# EAGLE library part HEADER-8POS- (library quadparts_prebuilt_2022)
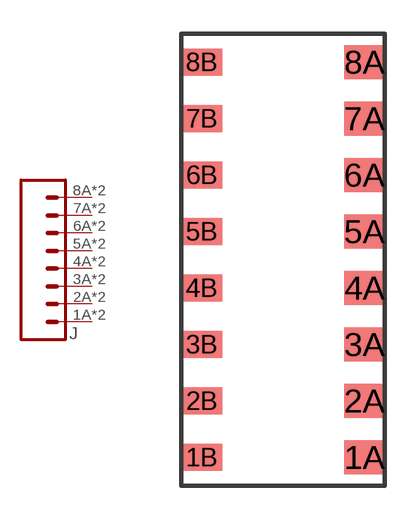
[diagram p4: symbol with the pads of WIRE-TERMINAL-1X8-2.5MM-SMD; footprint WIRE-TERMINAL-1X8-2.5MM-SMD]

Designator prefix J

## HEADER-8POS- (CREATOR: Swanson; DIST: DIGIKEY; DISTPN: 478-6173-1-ND; MOUNTING: SMD; PIN1: 1; PIN2: 2; PIN3: 3; PIN4: 4; PIN5: 5; PIN6: 6; PIN7: 7; PIN8: 8)  [WIRE-TERMINAL-1X8-2.5MM-SMD]
1A  1  pas
1B  1  pas
2A  2  pas
2B  2  pas
3A  3  pas
3B  3  pas
4A  4  pas
4B  4  pas
5A  5  pas
5B  5  pas
6A  6  pas
6B  6  pas
7A  7  pas
7B  7  pas
8A  8  pas
8B  8  pas

## Footprint WIRE-TERMINAL-1X8-2.5MM-SMD (pad centres in mm)
smd 1.8 x 1.5: 1A 3.6,-8.75; 2A 3.6,-6.25; 3A 3.6,-3.75; 4A 3.6,-1.25; 5A 3.6,1.25; 6A 3.6,3.75; 7A 3.6,6.25; 8A 3.6,8.75
smd 1.8 x 1.2: 1B -3.6,-8.75; 2B -3.6,-6.25; 3B -3.6,-3.75; 4B -3.6,-1.25; 5B -3.6,1.25; 6B -3.6,3.75; 7B -3.6,6.25; 8B -3.6,8.75